# EAGLE library part TPS61200 (library rs41)
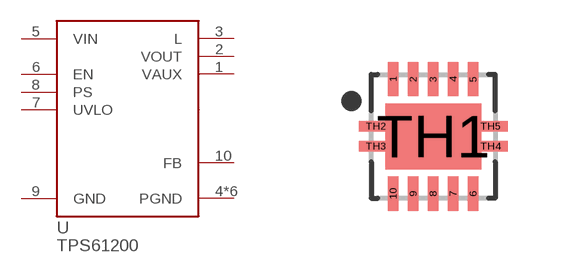
[diagram p5: symbol with the pads of QFN14_0.5MM_TH; footprint QFN14_0.5MM_TH]

Designator prefix U

## TPS61200  [QFN14_0.5MM_TH]
1  VAUX
2  VOUT
3  L
4  PGND
5  VIN
6  EN
7  UVLO
8  PS
9  GND
10  FB
TH1  PGND
TH2  PGND
TH3  PGND
TH4  PGND
TH5  PGND

## Footprint QFN14_0.5MM_TH (pad centres in mm)
14-QFN, 0.50 mm pitch, 3.00 X 3.00 X 1.00 mm body, 1.65 X 2.40 mm thermal pad 14-pin QFN package with 0.50 mm pitch with body size 3.00 X 3.00 X 1.00 mm and thermal pad size 1.65 X 2.40 mm
smd 0.264 x 0.86: 1 -1,1.435; 2 -0.5,1.435; 3 0,1.435; 4 0.5,1.435; 5 1,1.435; 6 1,-1.435; 7 0.5,-1.435; 8 0,-1.435; 9 -0.5,-1.435; 10 -1,-1.435
smd 2.4 x 1.65: TH1 0,0
smd 0.86 x 0.264: TH2 -1.435,0.25; TH3 -1.435,-0.25; TH4 1.435,-0.25; TH5 1.435,0.25